# Altium footprint library Fuse-SFJ.PcbLib: 1 footprints
Each footprint in its own frame and in the unit in brackets; x right, y up, seen from the top. Pads: shape width x height; smd on the part's side, far side on the other; paste and mask are expansions set on the pad; w line width, h text height; cw(c..) or ccw(c..) is an arc to the next point about the centre after c.
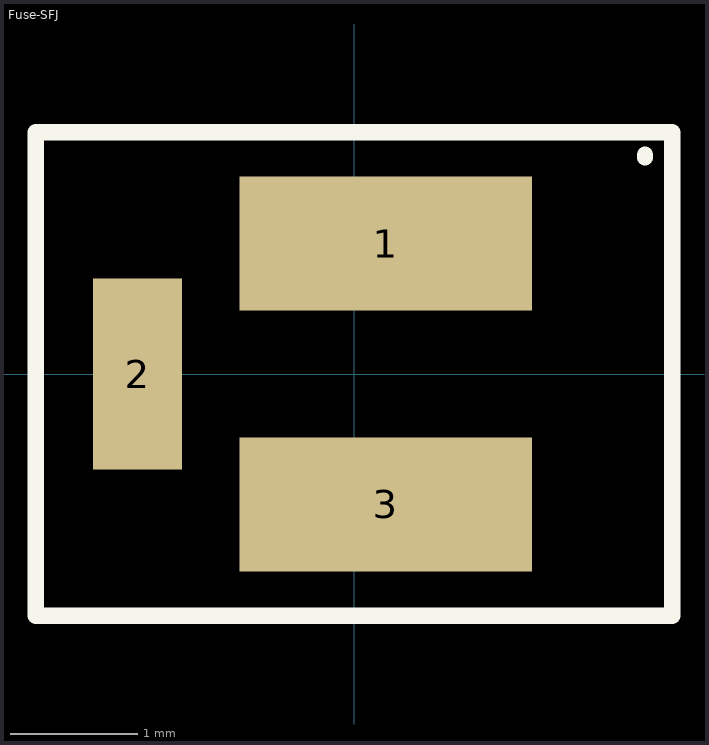
[diagram p0: the footprint, top view; thin cyan lines are the x and y axes]

## Fuse-SFJ [mm]
pads (3):
  rect 2.3x1.05 smd: 1(0.25,1.025) 3(0.25,-1.025)
  rect 0.7x1.5 smd: 2(-1.7,0)
Top Overlay:
  lines w0.127: 2.286,1.702 2.286,1.722 ; -2.5,-1.9 2.5,-1.9 2.5,1.9 -2.5,1.9 -2.5,-1.9
3D body: height 0.85, standoff 0, extent -2,-1.5 2,1.5